# Altium schematic symbol library SW 8POS PIANO DIP.Schlib: 1 symbol
Pins are listed as number, name and electrical type; pins without a type are passive.

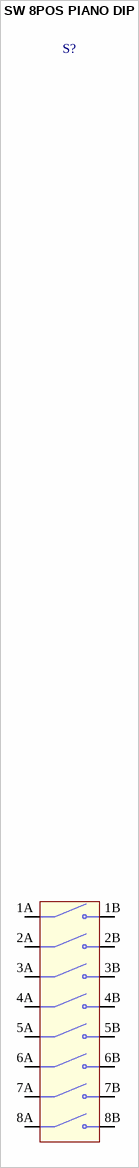
[diagram p0: symbol SW 8POS PIANO DIP]

## SW 8POS PIANO DIP
designator S?  (value not drawn)
GRAYHILL         76PSB08ST             DIP / SIP Switch, 76 Series, SPST, Through Hole, 8 Circuits, DIP Sealed, 30 VDC
footprint SW 8POS PIANO
pins: 1A COM1, 1B NO1, 2A COM2, 2B NO2, 3A COM3, 3B NO3, 4A COM4, 4B NO4, 5A COM5, 5B NO5, 6A COM6, 6B NO6, 7A COM7, 7B NO7, 8A COM8, 8B NO8